# Altium footprint library MOLEX_0533980471.PcbLib: 1 footprints
Each footprint in its own frame and in the unit in brackets; x right, y up, seen from the top. Pads: shape width x height; smd on the part's side, far side on the other; paste and mask are expansions set on the pad; w line width, h text height; cw(c..) or ccw(c..) is an arc to the next point about the centre after c.
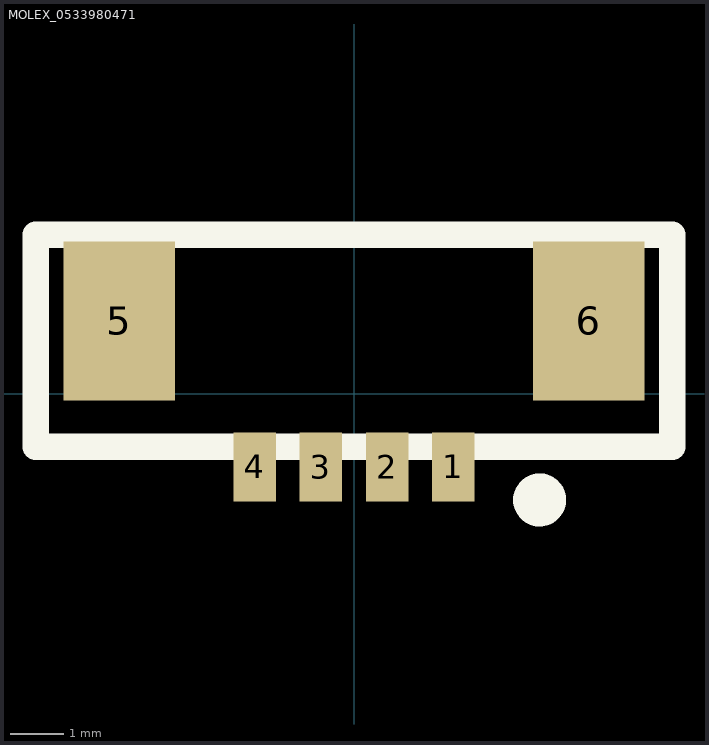
[diagram p0: the footprint, top view; thin cyan lines are the x and y axes]

## MOLEX_0533980471 [mm]
pads (6):
  rect 0.8x1.3 smd: 1(1.875,-1.375) 2(0.625,-1.375) 3(-0.625,-1.375) 4(-1.875,-1.375)
  rect 2.1x3 smd: 5(-4.425,1.375) 6(4.425,1.375)
Top Overlay:
  circle w0.5: c3.5,-2 r0.25
  lines w0.5: -6,-1 -6,3 6,3 6,-1 -6,-1
3D body "533980471.stp": height 4.72, standoff -0.02, extent -5.075,-1.6 5.075,2.6